# Altium footprint library Sumo Footprints.PcbLib: 37 footprints (part 2 of 3)
Each footprint in its own frame and in the unit in brackets; x right, y up, seen from the top. Pads: shape width x height; smd on the part's side, far side on the other; paste and mask are expansions set on the pad; w line width, h text height; cw(c..) or ccw(c..) is an arc to the next point about the centre after c.
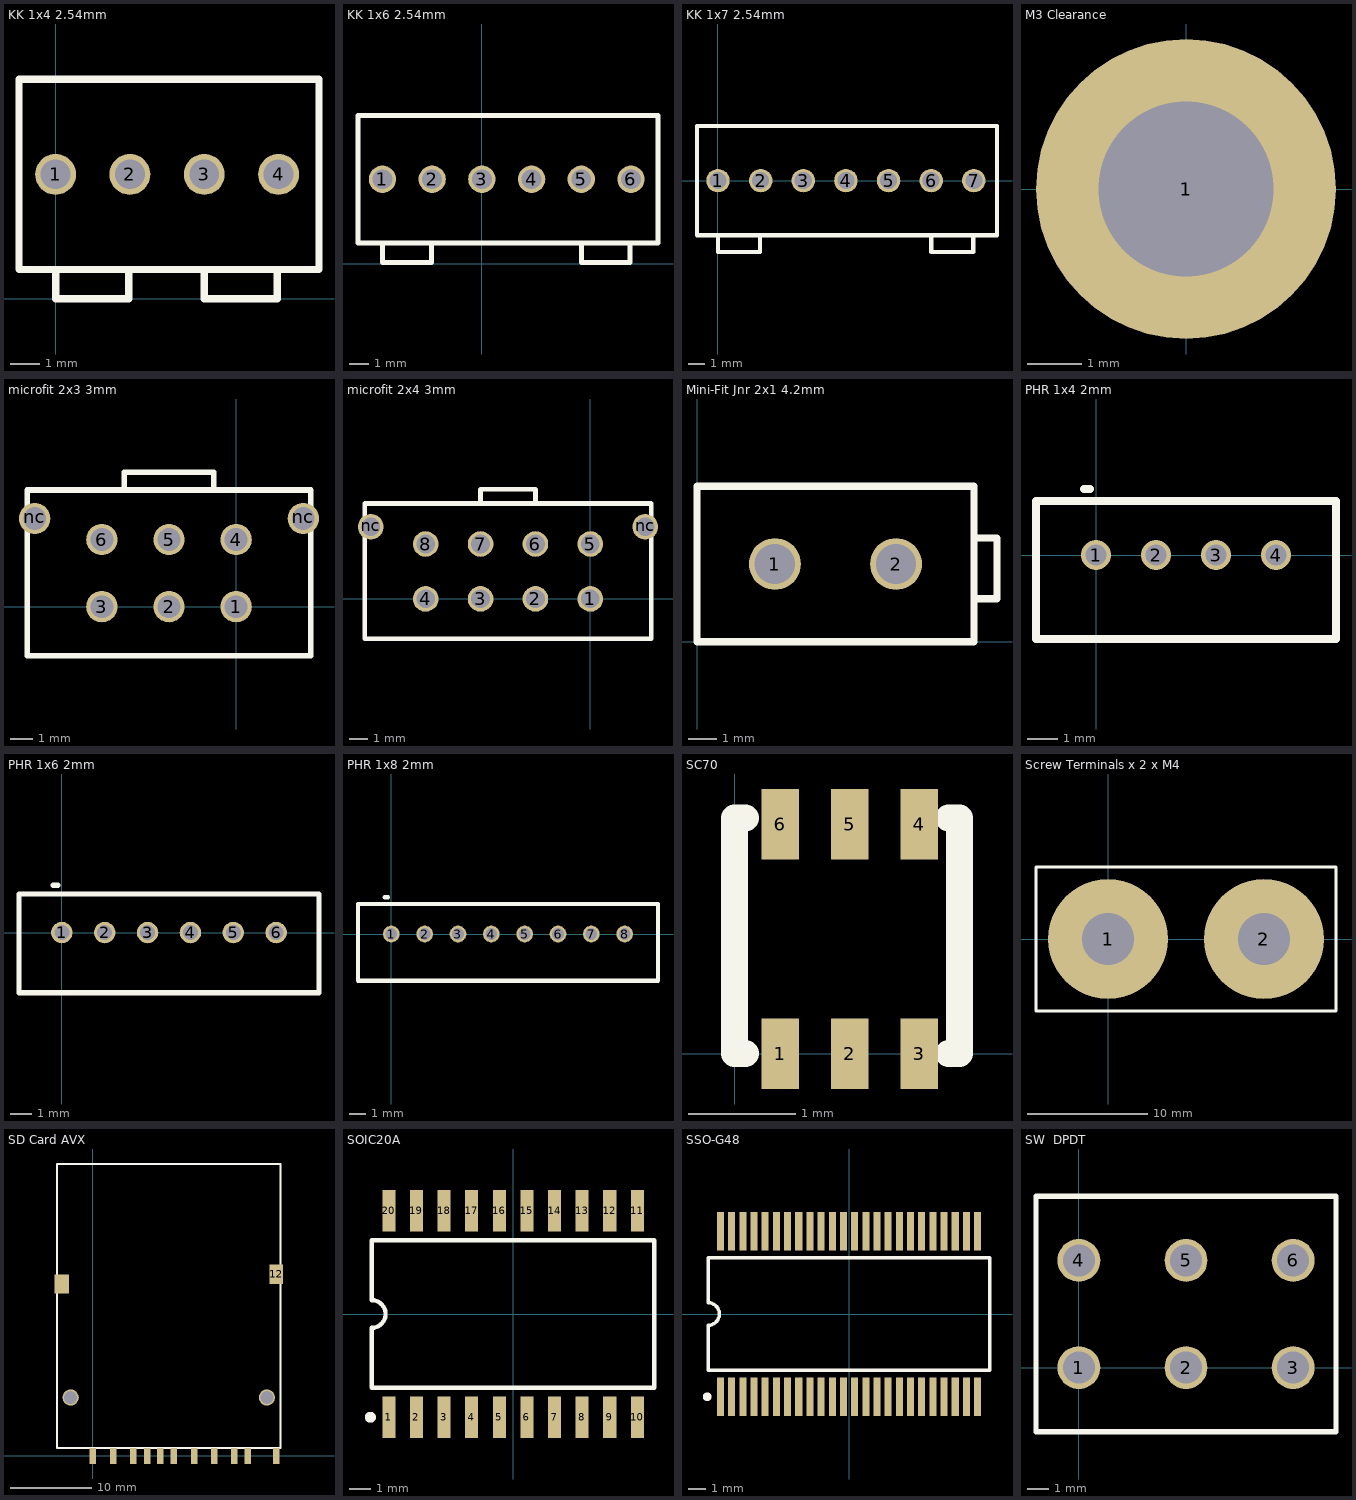
[diagram p1: the footprints below, top view; thin cyan lines are the x and y axes]

## KK 1x4 2.54mm [mil] "KK 1x4 2.54mm 4A"
pads (4):
  round 55 hole 40: 1(0,167.32) 2(100,167.32) 3(200,167.32) 4(300,167.32)
Top Overlay:
  lines w10: 0,39.37 0,0 98.43,0 98.43,39.37 ; 200,39.37 200,0 298.43,0 298.43,39.37 ; -49.21,39.37 -49.21,295.28 354.33,295.28 354.33,39.37 -49.21,39.37

## KK 1x6 2.54mm [mil] "KK 1x6 2.54mm 4A"
pads (6):
  round 55 hole 40: 1(-200,170) 2(-100,170) 3(0,170) 4(100,170) 5(200,170) 6(300,170)
Top Overlay:
  lines w10: -200,42.05 -200,2.68 -101.57,2.68 -101.57,42.05 ; 200,42.05 200,2.68 298.43,2.68 298.43,42.05 ; -249.21,42.05 354.33,42.05 354.33,297.95 -249.21,297.95 -249.21,42.05

## KK 1x7 2.54mm [mil] "Molex KK 1x7 2.54mm 4A"
pads (7):
  round 55 hole 40: 1(0,0) 2(100,0) 3(200,0) 4(300,0) 5(400,0) 6(500,0) 7(600,0)
Top Overlay:
  lines w10: 0,-127.95 0,-167.32 98.43,-167.32 98.43,-127.95 ; 500,-127.95 500,-167.32 598.43,-167.32 598.43,-127.95 ; -49.21,-127.95 654.33,-127.95 654.33,127.95 -49.21,127.95 -49.21,-127.95

## M3 Clearance [mm] "M3 Clearance.   3.2mm ID for M3 screw"
pads (1):
  round 5.5 hole 3.2: 1(0,0)

## microfit 2x3 3mm [mm] "microfit 2x3 3mm 5A"
pads (8):
  round 1.4 hole 1.02: 1(0,0) 2(-3,0) 3(-6,0) 4(0,3) 5(-3,3) 6(-6,3) nc(-9,3.94) nc(3,3.94)
Top Overlay:
  lines w0.254: -5,5.215 -5,6 -1,6 -1,5.215 ; -9.325,-2.185 3.325,-2.185 3.325,5.215 -9.325,5.215 -9.325,-2.185

## microfit 2x4 3mm  [mm] "microfit 2x4 3mm 5A"
pads (10):
  round 1.4 hole 1.02: 1(0,0) 2(-3,0) 3(-6,0) 4(-9,0) 5(0,3) 6(-3,3) 7(-6,3) 8(-9,3) nc(-12,3.94) nc(3,3.94)
Top Overlay:
  lines w0.254: -6,5.215 -6,6 -3,6 -3,5.215 ; -12.325,-2.185 3.325,-2.185 3.325,5.215 -12.325,5.215 -12.325,-2.185

## Mini-Fit Jnr 2x1 4.2mm [mm] "Mini-Fit Jnr 2x1 4.2mm pitch 9A"
pads (2):
  round 1.8 hole 1.4: 1(2.7,2.7) 2(6.9,2.7)
Top Overlay:
  lines w0.254: 9.6,1.5 10.4,1.5 10.4,3.6 9.6,3.6 ; 0,0 0,5.4 9.6,5.4 9.6,0 0,0

## PHR 1x4 2mm [mm] "JST PHR 1x4 2mm 2A"
pads (4):
  round 1 hole 0.7: 1(0,0) 2(2,0) 3(4,0) 4(6,0)
Top Overlay:
  lines w0.254: -0.4,2.2 -0.2,2.2 ; -2,-2.8 -2,1.8 8,1.8 8,-2.8 -2,-2.8

## PHR 1x6 2mm [mm] "JST PHR 1x6 2mm 2A"
pads (6):
  round 1 hole 0.7: 1(0,0) 2(2,0) 3(4,0) 4(6,0) 5(8,0) 6(10,0)
Top Overlay:
  lines w0.254: -0.4,2.2 -0.2,2.2 ; -2,-2.8 -2,1.8 12,1.8 12,-2.8 -2,-2.8

## PHR 1x8 2mm [mm] "JST PHR 1x8 2mm 2A"
pads (8):
  round 1 hole 0.7: 1(0,0) 2(2,0) 3(4,0) 4(6,0) 5(8,0) 6(10,0) 7(12,0) 8(14,0)
Top Overlay:
  lines w0.254: -0.4,2.2 -0.2,2.2 ; -2,-2.8 16,-2.8 16,1.8 -2,1.8 -2,-2.8

## SC70 [mm] "6 pin, 0.65 pitch"
pads (6):
  rect 0.35x0.66 smd: 1(0.425,0) 2(1.075,0) 3(1.725,0) 4(1.725,2.14) 5(1.075,2.14) 6(0.425,2.14)
Top Overlay:
  lines w0.254: 0.1,0 0,0 0,2.2 0.1,2.2 ; 2,0 2.1,0 2.1,2.2 2,2.2
  text "." at 0.4,-0.6 h0.25

## Screw Terminals x 2 x M4 [mm]
pads (2):
  round 10 hole 4.3: 1(0,0) 2(13,0)
Top Overlay:
  lines w0.254: -6,-6 19,-6 19,6 -6,6 -6,-6

## SD Card AVX [mm] "SD Card AVX 145638009211862"
pads (15):
  rect 0.8x2 smd: 1(2.5,0) 2(5,0) 3(8.3,0) 4(10,0) 5(12.5,0) 6(15,0) 7(17.43,0) 8(19.13,0) 9(0,0) 10(6.7,0) 11(22.62,0)
  rect 1.7x2.4 smd: 12(22.63,22.4)
  rect 1.8x2.4 smd: ""(-3.82,21.2)
  round 2 hole 1.6: ""(-2.72,7.2) ""(21.48,7.2)
Top Overlay:
  lines w0.254: -4.42,1 23.18,1 23.18,36 -4.42,36 -4.42,1

## SOIC20A [mm]
pads (20):
  rect 0.6x1.9 smd: 1(-5.715,-4.75) 2(-4.445,-4.75) 3(-3.175,-4.75) 4(-1.905,-4.75) 5(-0.635,-4.75) 6(0.635,-4.75) 7(1.905,-4.75) 8(3.175,-4.75) 9(4.445,-4.75) 10(5.715,-4.75) 11(5.715,4.75) 12(4.445,4.75) 13(3.175,4.75) 14(1.905,4.75) 15(0.635,4.75) 16(-0.635,4.75) 17(-1.905,4.75) 18(-3.175,4.75) 19(-4.445,4.75) 20(-5.715,4.75)
Top Overlay:
  circle w0.25: c-6.565,-4.75 r0.125
  lines w0.2: -6.5,-3.4 -6.5,-0.635 ccw(c-6.5,0) -6.5,0.635 -6.5,3.4 6.5,3.4 6.5,-3.4 -6.5,-3.4

## SSO-G48 [mm] "SSO-G48 25mil (~0.6mm)P 48 pads"
pads (48):
  rect 0.4x2.2 smd: 1(-7.302,-4.7) 2(-6.667,-4.7) 3(-6.032,-4.7) 4(-5.397,-4.7) 5(-4.763,-4.7) 6(-4.127,-4.7) 7(-3.492,-4.7) 8(-2.857,-4.7) 9(-2.222,-4.7) 10(-1.587,-4.7) 11(-0.953,-4.7) 12(-0.318,-4.7) 13(0.318,-4.7) 14(0.953,-4.7) 15(1.587,-4.7) 16(2.222,-4.7) 17(2.857,-4.7) 18(3.492,-4.7) 19(4.127,-4.7) 20(4.763,-4.7) 21(5.397,-4.7) 22(6.032,-4.7) 23(6.667,-4.7) 24(7.302,-4.7) 25(7.302,4.7) 26(6.667,4.7) 27(6.032,4.7) 28(5.397,4.7) 29(4.763,4.7) 30(4.127,4.7) 31(3.492,4.7) 32(2.857,4.7) 33(2.222,4.7) 34(1.587,4.7) 35(0.953,4.7) 36(0.318,4.7) 37(-0.318,4.7) 38(-0.953,4.7) 39(-1.587,4.7) 40(-2.222,4.7) 41(-2.857,4.7) 42(-3.492,4.7) 43(-4.127,4.7) 44(-4.763,4.7) 45(-5.397,4.7) 46(-6.032,4.7) 47(-6.667,4.7) 48(-7.302,4.7)
Top Overlay:
  circle w0.25: c-8.053,-4.7 r0.125
  lines w0.2: -8,-3.2 -8,-0.635 ccw(c-8,0) -8,0.635 -8,3.2 8,3.2 8,-3.2 -8,-3.2

## SW  DPDT [mm] "Alltronics Toggle"
pads (6):
  round 2 hole 1.5: 1(0,0) 2(5,0) 3(10,0) 4(0,5) 5(5,5) 6(10,5)
Top Overlay:
  lines w0.254: -2,-3 -2,8 12,8 12,-3 -2,-3